# Altium footprint library HV9006_MEASUREBOARD.PCBLIB: 292 footprints (part 6 of 19)
Each footprint in its own frame and in the unit in brackets; x right, y up, seen from the top. Pads: shape width x height; smd on the part's side, far side on the other; paste and mask are expansions set on the pad; w line width, h text height; cw(c..) or ccw(c..) is an arc to the next point about the centre after c.
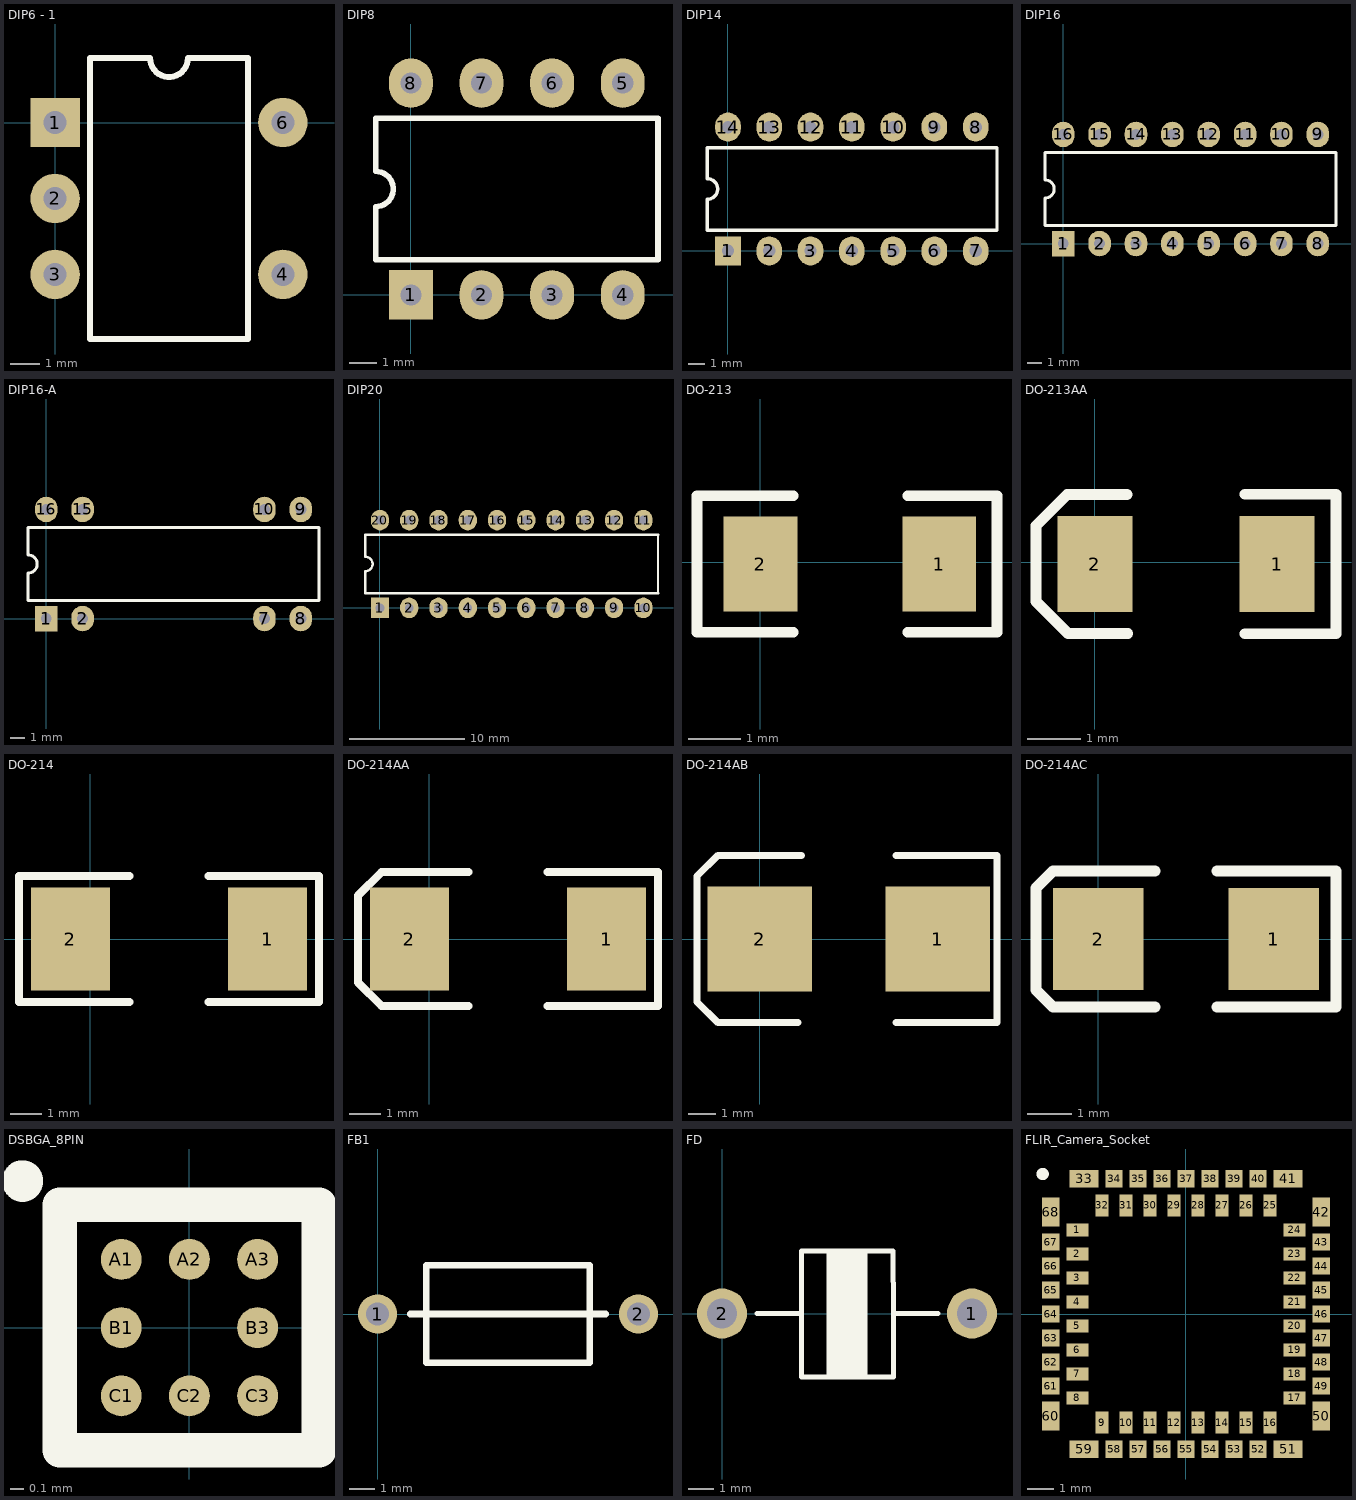
[diagram p5: the footprints below, top view; thin cyan lines are the x and y axes]

## DIP6 - 1 [mil]
pads (5):
  rect 65x65 hole 30: 1(0,0)
  round 65 hole 30: 2(0,-100) 3(0,-200) 4(300,-200) 6(300,0)
Top Overlay:
  lines w7.87: 45.67,-285.04 254.33,-285.04 254.33,85.04 175,85.04 cw(c150,85.04) 125,85.04 45.67,85.04 45.67,-285.04

## DIP8 [mil]
pads (8):
  rect 62x70 hole 30: 1(0,0)
  oval 62x70 hole 30: 2(100,0) 3(200,0) 4(300,0) 5(300,300) 6(200,300) 7(100,300) 8(0,300)
Top Overlay:
  lines w8: -50,50 350,50 350,250 -50,250 -50,175 cw(c-50,150) -50,125 -50,50

## DIP14 [mil]
pads (14):
  rect 62x70 hole 30: 1(0,0)
  oval 62x70 hole 30: 2(100,0) 3(200,0) 4(300,0) 5(400,0) 6(500,0) 7(600,0) 8(600,300) 9(500,300) 10(400,300) 11(300,300) 12(200,300) 13(100,300) 14(0,300)
Top Overlay:
  lines w8: -50,50 -50,125 ccw(c-50,150) -50,175 -50,250 651.57,250 651.57,50 -50,50

## DIP16 [mil]
pads (16):
  rect 62x70 hole 30: 1(0,0)
  oval 62x70 hole 30: 2(100,0) 3(200,0) 4(300,0) 5(400,0) 6(500,0) 7(600,0) 8(700,0) 9(700,300) 10(600,300) 11(500,300) 12(400,300) 13(300,300) 14(200,300) 15(100,300) 16(0,300)
Top Overlay:
  lines w8: -50,50 -50,125 ccw(c-50,150) -50,175 -50,250 750,250 750,50 -50,50

## DIP16-A [mil]
pads (8):
  rect 62x70 hole 30: 1(0,0)
  oval 62x70 hole 30: 2(100,0) 7(600,0) 8(700,0) 9(700,300) 10(600,300) 15(100,300) 16(0,300)
Top Overlay:
  lines w8: -50,50 -50,125 ccw(c-50,150) -50,175 -50,250 750,250 750,50 -50,50

## DIP20 [mil]
pads (20):
  rect 62x70 hole 30: 1(0,0)
  oval 62x70 hole 30: 2(100,0) 3(200,0) 4(300,0) 5(400,0) 6(500,0) 7(600,0) 8(700,0) 9(800,0) 10(900,0) 11(900,300) 12(800,300) 13(700,300) 14(600,300) 15(500,300) 16(400,300) 17(300,300) 18(200,300) 19(100,300) 20(0,300)
Top Overlay:
  lines w8: -50,50 -50,125 ccw(c-50,150) -50,175 -50,250 ; 950,50 950,250
  lines w10: -50,50 950,50 ; -50,250 950,250

## DO-213 [mm]
pads (2):
  rect 1.4x1.8 smd: 1(3.405,-0.031) 2(0.005,-0.031)
Top Overlay:
  lines w0.2: 0.624,-1.331 -1.203,-1.331 -1.203,1.269 0.624,1.269 ; 2.805,-1.331 4.505,-1.331 4.505,1.269 2.805,1.269

## DO-213AA [mm]
pads (2):
  rect 1.4x1.8 smd: 1(3.405,-0.031) 2(0.005,-0.031)
Top Overlay:
  lines w0.2: 0.604,1.267 -0.514,1.267 -1.096,0.686 -1.096,-0.732 -0.498,-1.33 0.619,-1.33 ; 2.805,-1.331 4.505,-1.331 4.505,1.269 2.805,1.269

## DO-214 [mil]
pads (2):
  rect 100x130 smd: 1(225,0) 2(-25,0)
Top Overlay:
  lines w10: -90,-75 -90,-80 ; -90,75 -90,80 ; 50,-80 -90,-80 ; 50,80 -90,80 ; 150,-80 290,-80 290,80 150,80 ; -90,-80 -90,80

## DO-214AA [mil]
pads (2):
  rect 100x130 smd: 1(225,0) 2(-25,0)
Top Overlay:
  lines w10: 50,-85 -60,-85 -90,-55 -90,55 -60,85 50,85 ; 150,-85 290,-85 290,85 150,85

## DO-214AB [mil]
pads (2):
  rect 150x150 smd: 1(255,0) 2(0,0)
Top Overlay:
  lines w10: 55,-120 -60,-120 -90,-90 -90,90 -60,120 60,120 ; 195,-120 340,-120 340,120 195,120

## DO-214AC [mil]
pads (2):
  rect 80x90 smd: 1(155,0) 2(0,0)
Top Overlay:
  lines w10: 50,-60 -40,-60 -55,-45 -55,45 -40,60 50,60 ; 105,-60 210,-60 210,60 105,60

## DSBGA_8PIN [mm]
pads (8):
  round 0.3 smd: A1(-0.5,0.5) A2(0,0.5) A3(0.5,0.5) B1(-0.5,0) B3(0.5,0) C1(-0.5,-0.5) C2(0,-0.5) C3(0.5,-0.5)
Top Overlay:
  circle w0.254: c-1.225,1.075 r0.025
  lines w0.254: -0.95,-0.9 0.95,-0.9 0.95,0.9 -0.95,0.9 -0.95,-0.9
3D body: height 0.63, standoff 0, extent -0.85,-0.8 0.85,0.8

## FB1 [mil]
pads (2):
  round 60 hole 35: 1(0,0) 2(400,0)
Top Overlay:
  lines w10: 50,0 350,0 ; 75,-75 75,75 325,75 325,-75 75,-75

## FD [mm]
pads (2):
  round 2 hole 1.2: 1(10,0) 2(0,0)
Top Overlay:
  rectangle: 4.175,-2.5 5.825,2.5
  lines w0.2: 1.397,0 3.175,0 ; 8.636,0 6.858,0 ; 6.858,0 6.858,-2.54 3.175,-2.54 3.175,2.5 6.841,2.5 6.858,0

## FLIR_Camera_Socket [mm]
pads (68):
  rect 0.84x0.5 smd: 1(-4.07,3.15) 2(-4.07,2.25) 3(-4.07,1.35) 4(-4.07,0.45) 5(-4.07,-0.45) 6(-4.07,-1.35) 7(-4.07,-2.25) 8(-4.07,-3.15) 17(4.07,-3.15) 18(4.07,-2.25) 19(4.07,-1.35) 20(4.07,-0.45) 21(4.07,0.45) 22(4.07,1.35) 23(4.07,2.25) 24(4.07,3.15)
  rect 0.5x0.84 smd: 9(-3.15,-4.07) 10(-2.25,-4.07) 11(-1.35,-4.07) 12(-0.45,-4.07) 13(0.45,-4.07) 14(1.35,-4.07) 15(2.25,-4.07) 16(3.15,-4.07) 25(3.15,4.07) 26(2.25,4.07) 27(1.35,4.07) 28(0.45,4.07) 29(-0.45,4.07) 30(-1.35,4.07) 31(-2.25,4.07) 32(-3.15,4.07)
  rect 1.1x0.65 smd: 33(-3.825,5.075) 41(3.825,5.075) 51(3.825,-5.075) 59(-3.825,-5.075)
  rect 0.65x0.65 smd: 34(-2.7,5.075) 35(-1.8,5.075) 36(-0.9,5.075) 37(0,5.075) 38(0.9,5.075) 39(1.8,5.075) 40(2.7,5.075) 43(5.075,2.7) 44(5.075,1.8) 45(5.075,0.9) 46(5.075,0) 47(5.075,-0.9) 48(5.075,-1.8) 49(5.075,-2.7) 52(2.7,-5.075) 53(1.8,-5.075) 54(0.9,-5.075) 55(0,-5.075) 56(-0.9,-5.075) 57(-1.8,-5.075) 58(-2.7,-5.075) 61(-5.075,-2.7) 62(-5.075,-1.8) 63(-5.075,-0.9) 64(-5.075,0) 65(-5.075,0.9) 66(-5.075,1.8) 67(-5.075,2.7)
  rect 0.65x1.1 smd: 42(5.075,3.825) 50(5.075,-3.825) 60(-5.075,-3.825) 68(-5.075,3.825)
Top Overlay:
  circle w0.254: c-5.375,5.25 r0.103
3D body "1050281001.stp": height 4.18, standoff -0.02, extent -5.405,-5.3 5.375,5.3